# EAGLE library part CD4097BPWR (library uart_mux)
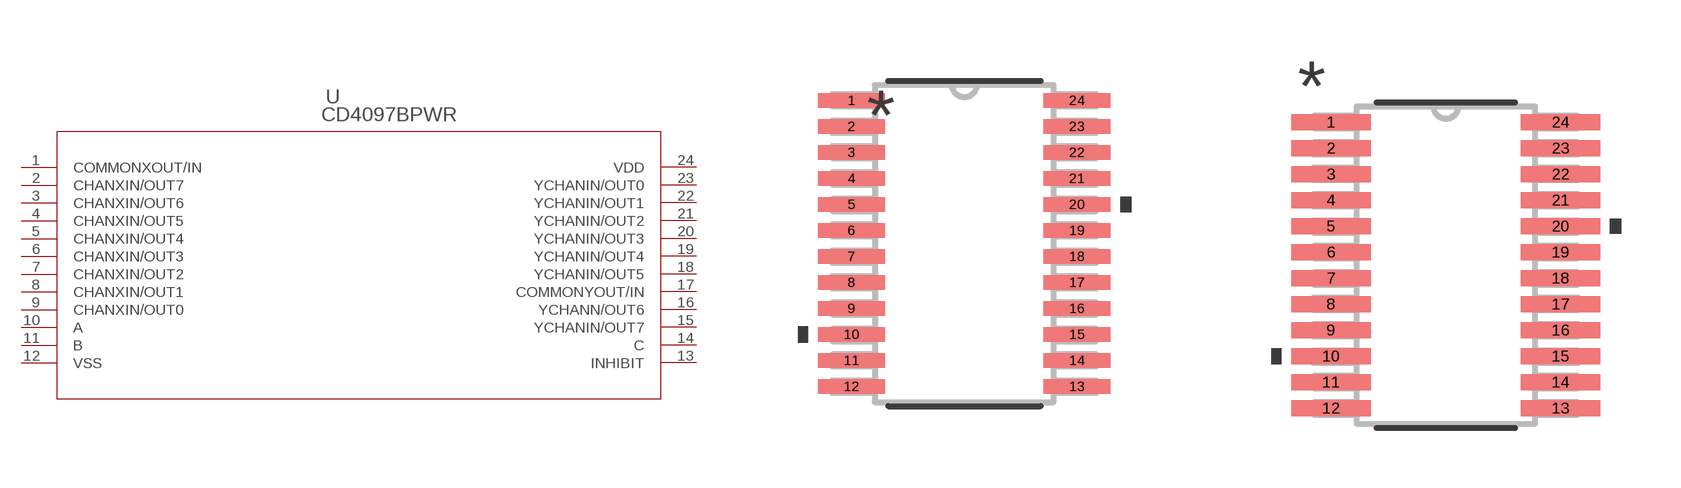
[diagram p0: symbol with the pads of PW24; footprints PW24, PW24-M]

Designator prefix U

## CD4097BPWR (BUILT_BY: EMA_UL_Team; MANUFACTURER: Texas Instruments; MANUFACTURER_PART_NUMBER: CD4097BPWR; VENDOR: Vendor)  [PW24]
1  COMMONXOUT/IN
2  CHANXIN/OUT7
3  CHANXIN/OUT6
4  CHANXIN/OUT5
5  CHANXIN/OUT4
6  CHANXIN/OUT3
7  CHANXIN/OUT2
8  CHANXIN/OUT1
9  CHANXIN/OUT0
10  A  pas
11  B  pas
12  VSS  pwr
13  INHIBIT  pas
14  C  pas
15  YCHANIN/OUT7  pas
16  YCHANN/OUT6
17  COMMONYOUT/IN
18  YCHANIN/OUT5
19  YCHANIN/OUT4
20  YCHANIN/OUT3
21  YCHANIN/OUT2
22  YCHANIN/OUT1
23  YCHANIN/OUT0
24  VDD  pwr

## CD4097BPWRPW24-M (BUILT_BY: EMA_UL_Team; MANUFACTURER: Texas Instruments; MANUFACTURER_PART_NUMBER: CD4097BPWR; VENDOR: Vendor)  [PW24-M]
Pads as for PW24

## CD4097BPWRPW24-L (BUILT_BY: EMA_UL_Team; MANUFACTURER: Texas Instruments; MANUFACTURER_PART_NUMBER: CD4097BPWR; VENDOR: Vendor)  [PW24-L]
Pads as for PW24

## Footprint PW24 (pad centres in mm)
smd 1.676 x 0.356: 1 -2.819,3.575; 2 -2.819,2.925; 3 -2.819,2.275; 4 -2.819,1.625; 5 -2.819,0.975; 6 -2.819,0.325; 7 -2.819,-0.325; 8 -2.819,-0.975; 9 -2.819,-1.625; 10 -2.819,-2.275; 11 -2.819,-2.925; 12 -2.819,-3.575; 13 2.819,-3.575; 14 2.819,-2.925; 15 2.819,-2.275; 16 2.819,-1.625; 17 2.819,-0.975; 18 2.819,-0.325; 19 2.819,0.325; 20 2.819,0.975; 21 2.819,1.625; 22 2.819,2.275; 23 2.819,2.925; 24 2.819,3.575

## Footprint PW24-M (pad centres in mm)
smd 1.981 x 0.406: 1 -2.87,3.575; 2 -2.87,2.925; 3 -2.87,2.275; 4 -2.87,1.625; 5 -2.87,0.975; 6 -2.87,0.325; 7 -2.87,-0.325; 8 -2.87,-0.975; 9 -2.87,-1.625; 10 -2.87,-2.275; 11 -2.87,-2.925; 12 -2.87,-3.575; 13 2.87,-3.575; 14 2.87,-2.925; 15 2.87,-2.275; 16 2.87,-1.625; 17 2.87,-0.975; 18 2.87,-0.325; 19 2.87,0.325; 20 2.87,0.975; 21 2.87,1.625; 22 2.87,2.275; 23 2.87,2.925; 24 2.87,3.575

## Footprint PW24-L (pad centres in mm)
smd 1.372 x 0.305: 1 -2.769,3.575; 2 -2.769,2.925; 3 -2.769,2.275; 4 -2.769,1.625; 5 -2.769,0.975; 6 -2.769,0.325; 7 -2.769,-0.325; 8 -2.769,-0.975; 9 -2.769,-1.625; 10 -2.769,-2.275; 11 -2.769,-2.925; 12 -2.769,-3.575; 13 2.769,-3.575; 14 2.769,-2.925; 15 2.769,-2.275; 16 2.769,-1.625; 17 2.769,-0.975; 18 2.769,-0.325; 19 2.769,0.325; 20 2.769,0.975; 21 2.769,1.625; 22 2.769,2.275; 23 2.769,2.925; 24 2.769,3.575